# Altium footprint library USB Micro-BF.PcbLib: 1 footprints
Each footprint in its own frame and in the unit in brackets; x right, y up, seen from the top. Pads: shape width x height; smd on the part's side, far side on the other; paste and mask are expansions set on the pad; w line width, h text height; cw(c..) or ccw(c..) is an arc to the next point about the centre after c.
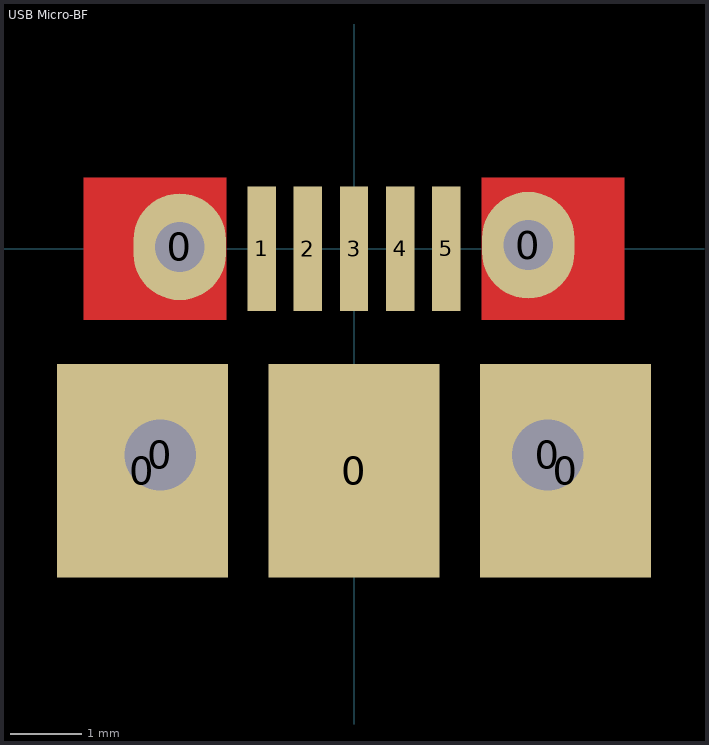
[diagram p0: the footprint, top view; thin cyan lines are the x and y axes]

## USB Micro-BF [mm]
pads (12):
  rect 2.4x3 smd: 0(-2.975,-3.125) 0(0,-3.125) 0(2.975,-3.125)
  round 1.5 hole 1 mask+0.3: 0(-2.725,-2.9) 0(2.725,-2.9)
  oval 1.3x1.5 hole 0.7: 0(-2.45,0.025) 0(2.45,0.05)
  rect 0.4x1.75 smd: 1(-1.3,0) 2(-0.65,0) 3(0,0) 4(0.65,0) 5(1.3,0)
Top Layer:
  region: 3.8,1 3.8,-1 1.8,-1 1.8,1
  region: -1.8,1 -1.8,-1 -3.8,-1 -3.8,1
Top Solder:
  region: 3,1.1 1.7,1.1 1.7,-1.1 3,-1.1
  rectangle: -3,-1.1 -1.7,1.1
3D body "microUSB.STEP": height 2.95, standoff -0.65, extent -4.02,-5.749 4.02,0.284